# EAGLE library part MAX5903ABEUT+T (library MAX5903ABEUT_T)
None
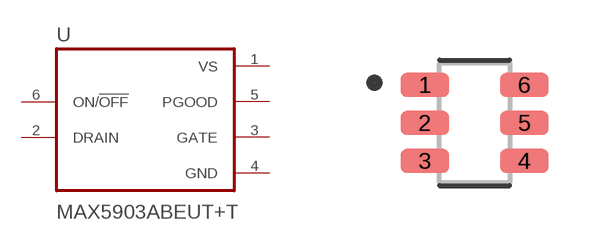
[diagram p0: symbol with the pads of SOT95P280X145-6N; footprint SOT95P280X145-6N]

Designator prefix U

## MAX5903ABEUT+T (AVAILABILITY: Unavailable; DESCRIPTION: IC HOT SWAP CTRLR GP SOT23-6; MF: Maxim Integrated; MP: MAX5903ABEUT+T; PACKAGE: SOT-23-6 Maxim; PRICE: None)  [SOT95P280X145-6N]
1  VS  pwr
2  DRAIN  in
3  GATE  out
4  GND  pwr
5  PGOOD  out
6  ON/!OFF  in

## Footprint SOT95P280X145-6N (pad centres in mm)
smd 1.22 x 0.6: 1 -1.245,0.95; 2 -1.245,0; 3 -1.245,-0.95; 4 1.245,-0.95; 5 1.245,0; 6 1.245,0.95